# EAGLE library part 74*244 (library IC_Logic)
Octal BUFFER and LINE DRIVER, 3-state
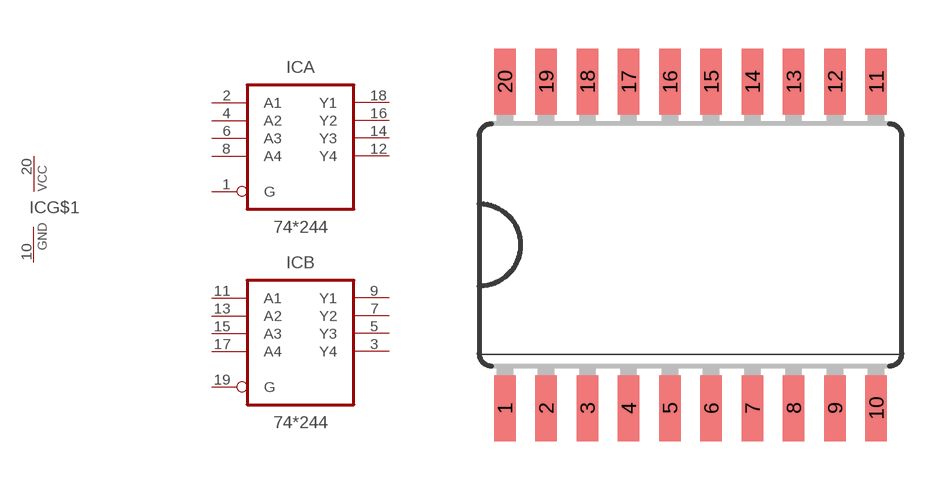
[diagram p10: symbol with the pads of SO20W; footprint SO20W]

Designator prefix IC; gates A=74244 B=74244 G$1=PWRN

## 74AC244DW (CATEGORY: IC_Logic; SUB-CATEGORY: Buffer; VALUE: 74244), 74ACT244DW (CATEGORY: IC_Logic; SUB-CATEGORY: Buffer; VALUE: 74244), 74HC244DW (CATEGORY: IC_Logic; SUB-CATEGORY: Buffer; VALUE: 74244), 74HCT244DW (CATEGORY: IC_Logic; SUB-CATEGORY: Buffer; VALUE: 74244), 74LS244DW (CATEGORY: IC_Logic; SUB-CATEGORY: Buffer; VALUE: 74244), 74S244DW (CATEGORY: IC_Logic; SUB-CATEGORY: Buffer; VALUE: 74244)  [SO20W]
1  A:G  in
2  A:A1  in
3  B:Y4  hiz
4  A:A2  in
5  B:Y3  hiz
6  A:A3  in
7  B:Y2  hiz
8  A:A4  in
9  B:Y1  hiz
10  G$1:GND  pwr
11  B:A1  in
12  A:Y4  hiz
13  B:A2  in
14  A:Y3  hiz
15  B:A3  in
16  A:Y2  hiz
17  B:A4  in
18  A:Y1  hiz
19  B:G  in
20  G$1:VCC  pwr

## Footprint SO20W (pad centres in mm)
Wide Small Outline package 300 mil
smd 0.66 x 2.032: 1 -5.715,-5.029; 2 -4.445,-5.029; 3 -3.175,-5.029; 4 -1.905,-5.029; 5 -0.635,-5.029; 6 0.635,-5.029; 7 1.905,-5.029; 8 3.175,-5.029; 9 4.445,-5.029; 10 5.715,-5.029; 11 5.715,5.029; 12 4.445,5.029; 13 3.175,5.029; 14 1.905,5.029; 15 0.635,5.029; 16 -0.635,5.029; 17 -1.905,5.029; 18 -3.175,5.029; 19 -4.445,5.029; 20 -5.715,5.029